# EAGLE library part TPS62110 (library DSDEagleLibrary)
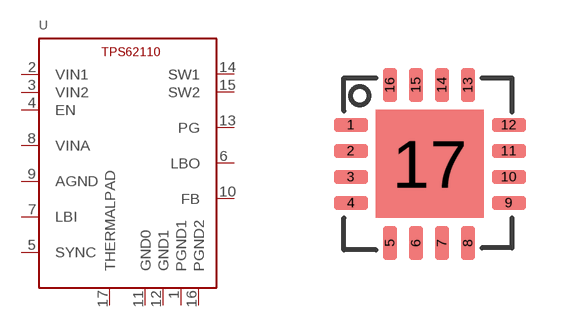
[diagram p55: symbol with the pads of 16PINVQFN; footprint 16PINVQFN]

Designator prefix U

## TPS62110  [16PINVQFN]
1  PGND1
2  VIN1
3  VIN2
4  EN
5  SYNC
6  LBO
7  LBI
8  VINA
9  AGND
10  FB
11  GND0
12  GND1
13  PG
14  SW1
15  SW2
16  PGND2
17  THERMALPAD

## Footprint 16PINVQFN (pad centres in mm)
smd 0.85 x 0.35: 1 -1.975,0.975; 2 -1.975,0.325; 3 -1.975,-0.325; 4 -1.975,-0.975; 9 1.975,-0.975; 10 1.975,-0.325; 11 1.975,0.325; 12 1.975,0.975
smd 0.35 x 0.85: 5 -1,-1.975; 6 -0.35,-1.975; 7 0.3,-1.975; 8 0.95,-1.975; 13 0.95,1.975; 14 0.3,1.975; 15 -0.35,1.975; 16 -1,1.975
smd 2.7 x 2.7: 17 0,0